# Altium footprint library ADE_PcbLib.PcbLib: 11 footprints
Each footprint in its own frame and in the unit in brackets; x right, y up, seen from the top. Pads: shape width x height; smd on the part's side, far side on the other; paste and mask are expansions set on the pad; w line width, h text height; cw(c..) or ccw(c..) is an arc to the next point about the centre after c.
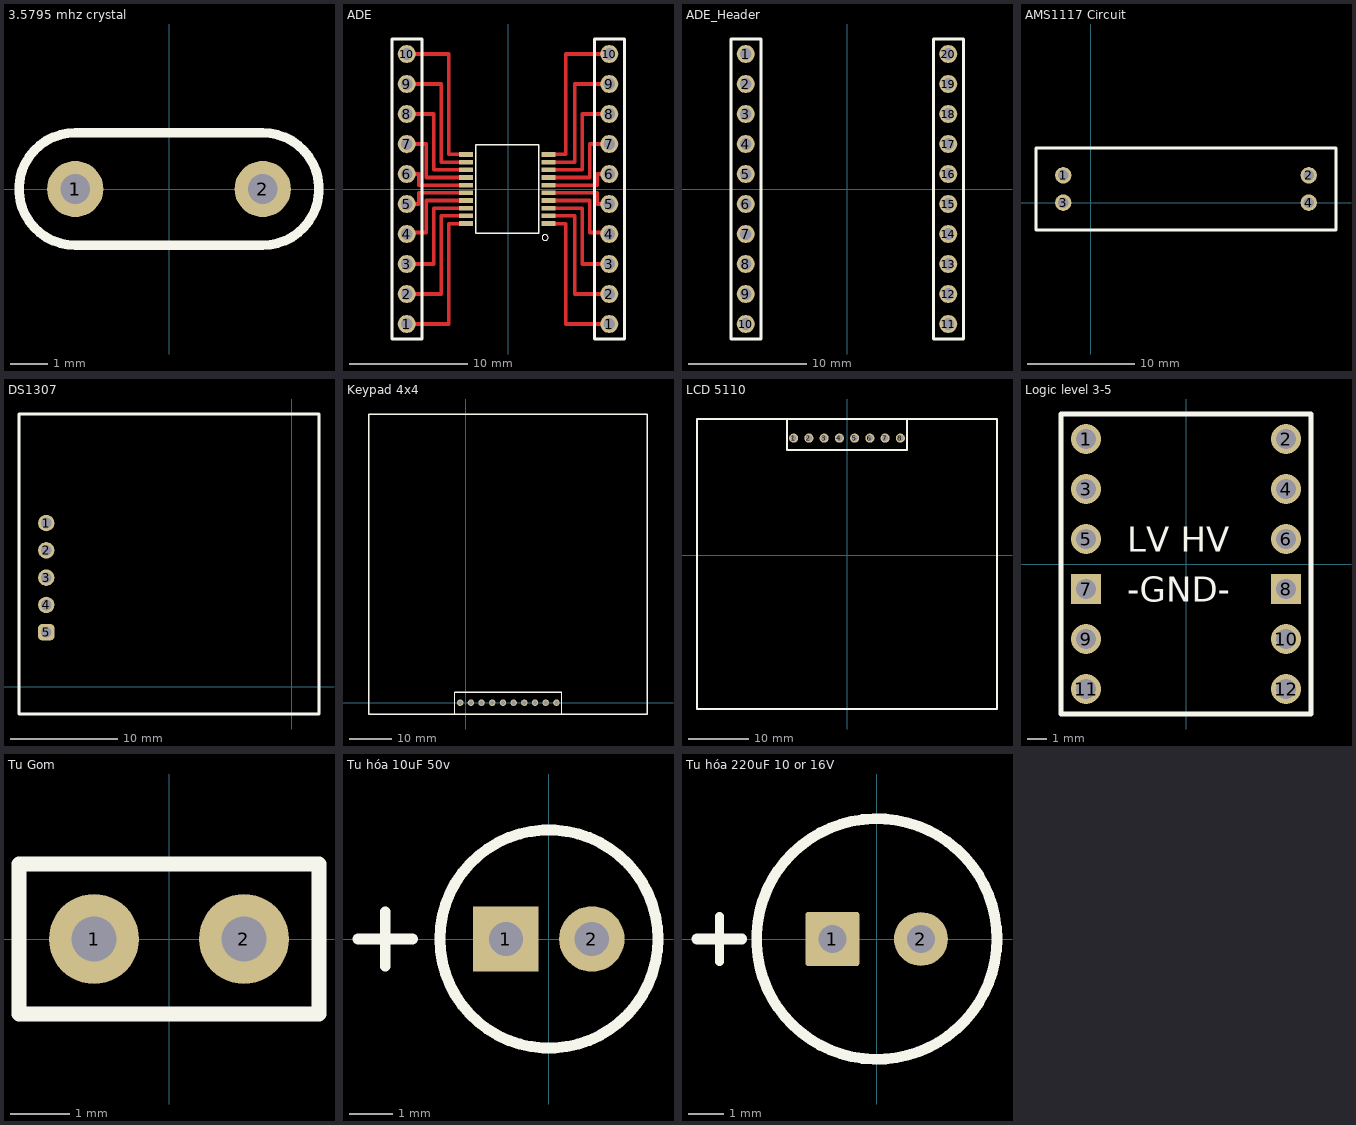
[diagram p0: the footprints below, top view; thin cyan lines are the x and y axes]

## 3.5795 mhz crystal [mil]
pads (3):
  round 60 hole 31.5: 1(-100,0) 1(-100,0) 2(100,0)
Top Overlay:
  lines w10: -100,-60 cw(c-100,0) -100,60 100,60 cw(c100,0) 100,-60 -100,-60

## ADE [mm]
height 2
pads (40):
  round 1.524 hole 1 mask+0.1: 1(-8.572,-11.43) 1(8.572,-11.43) 2(-8.572,-8.89) 2(8.572,-8.89) 3(-8.572,-6.35) 3(8.572,-6.35) 4(-8.572,-3.81) 4(8.572,-3.81) 5(-8.572,-1.27) 5(8.572,-1.27) 6(-8.572,1.27) 6(8.572,1.27) 7(-8.572,3.81) 7(8.572,3.81) 8(-8.572,6.35) 8(8.572,6.35) 9(-8.572,8.89) 9(8.572,8.89) 10(-8.572,11.43) 10(8.572,11.43)
  rect 1.2x0.4 smd: 1(3.437,-2.925) 2(3.437,-2.275) 3(3.437,-1.625) 4(3.437,-0.975) 5(3.437,-0.325) 6(3.437,0.325) 7(3.437,0.975) 8(3.437,1.625) 9(3.437,2.275) 10(3.437,2.925) 11(-3.564,2.925) 12(-3.564,2.275) 13(-3.564,1.625) 14(-3.564,0.975) 15(-3.564,0.325) 16(-3.564,-0.325) 17(-3.564,-0.975) 18(-3.564,-1.625) 19(-3.564,-2.275) 20(-3.564,-2.925)
Top Layer:
  lines w0.3: -8.572,-11.43 -5.016,-11.43 -5.016,-2.925 -3.564,-2.925 ; -8.572,-8.89 -5.651,-8.89 -5.651,-2.275 -3.564,-2.275 ; -8.572,-6.35 -6.286,-6.35 -6.286,-1.625 -3.564,-1.625 ; -8.572,-3.81 -8.572,-3.683 -6.923,-3.683 -6.923,-0.975 -3.564,-0.975 ; -8.572,-1.27 -7.561,-1.27 -7.561,-0.325 -3.564,-0.325 ; -8.572,1.27 -7.561,1.27 -7.561,0.325 -3.564,0.325 ; -8.572,3.81 -8.572,3.175 -7.938,3.81 -6.923,3.81 -6.923,0.975 -3.564,0.975 ; -8.572,6.35 -6.286,6.35 -6.286,1.625 -3.564,1.625 ; -8.572,8.89 -5.651,8.89 -5.651,2.275 -3.564,2.275 ; -8.572,11.43 -5.016,11.43 -5.016,2.925 -3.564,2.925 ; 3.437,-2.925 4.889,-2.925 4.889,-11.43 8.572,-11.43 ; 3.437,-2.275 5.651,-2.275 5.651,-8.89 8.572,-8.89 ; 3.437,-1.625 6.286,-1.625 6.286,-6.35 8.572,-6.35 ; 3.437,-0.975 6.921,-0.975 6.921,-3.683 8.191,-3.683 8.572,-3.302 8.572,-3.81 ; 3.437,-0.325 7.556,-0.325 7.556,-1.27 8.572,-1.27 ; 3.437,0.325 7.556,0.325 7.556,1.27 8.572,1.27 ; 3.437,0.975 6.921,0.975 6.921,3.81 8.572,3.81 ; 3.437,1.625 6.286,1.625 6.286,6.35 8.572,6.35 ; 3.437,2.275 5.651,2.275 5.651,8.89 8.572,8.89 ; 3.437,2.925 4.889,2.925 4.889,11.43 8.572,11.43
Top Overlay:
  circle w0: c3.147,-4.11 r0.25
  lines w0.127: -2.713,-3.75 -2.713,3.75 2.586,3.75 2.586,-3.75 -2.713,-3.75
  lines w0.254: -9.842,-12.7 -7.302,-12.7 -7.302,12.7 -9.842,12.7 -9.842,-12.7 ; 7.302,-12.7 9.842,-12.7 9.842,12.7 7.302,12.7 7.302,-12.7

## ADE_Header [mil]
height 78.74
pads (20):
  round 60 hole 39.37 mask+3.94: 1(-337.5,450) 2(-337.5,350) 3(-337.5,250) 4(-337.5,150) 5(-337.5,50) 6(-337.5,-50) 7(-337.5,-150) 8(-337.5,-250) 9(-337.5,-350) 10(-337.5,-450) 11(337.5,-450) 12(337.5,-350) 13(337.5,-250) 14(337.5,-150) 15(337.5,-50) 16(337.5,50) 17(337.5,150) 18(337.5,250) 19(337.5,350) 20(337.5,450)
Top Overlay:
  lines w10: -387.5,-500 -387.5,500 -287.5,500 -287.5,-500 -387.5,-500 ; 287.5,-500 287.5,500 387.5,500 387.5,-500 287.5,-500

## AMS1117 Circuit [mil] "4 pins, 25x11mm"
height 314.96
pads (4):
  round 60 hole 39.37 mask+3.94: 1(-100,100) 2(800,100) 3(-100,0) 4(800,0)
Top Overlay:
  lines w10: -200,-100 -200,200 800,200 900,200 900,-100 -200,-100

## DS1307 [mil] "Tiny RTC DS1307"
height 196.85
pads (5):
  round 60 hole 39.37 mask+3.94: 1(-900,600) 2(-900,500) 3(-900,400) 4(-900,300)
  rrect50% 60x60 hole 39.37 mask+3.94: 5(-900,200)
Top Overlay:
  lines w11.81: -1000,-100 100,-100 100,1000 -1000,1000 -1000,-100

## Keypad 4x4 [mil] "ban phim c?ng 10 pins"
height 314.96
pads (10):
  round 60 hole 39.37 mask+3.94: 1(-50,0) 2(50,0) 3(150,0) 4(250,0) 5(350,0) 6(450,0) 7(550,0) 8(650,0) 9(750,0) 10(850,0)
Top Overlay:
  lines w10: -100,-100 -100,100 ; 900,-100 900,100
  lines w11.81: -100,100 900,100 ; -905.51,-105.51 1700,-105.51 1700,2700 -905.51,2700 -905.51,-105.51

## LCD 5110 [mil] "Break out board, 8 pins"
height 236.22
pads (8):
  round 60 hole 39.37 mask+3.94: 1(-350,767.4) 2(-250,767.4) 3(-150,767.4) 4(-50,767.4) 5(50,767.4) 6(150,767.4) 7(250,767.4) 8(350,767.4)
Top Overlay:
  lines w11.81: -984.25,-1010 -984.25,893 984.25,893 984.25,-1010 -984.25,-1010 ; -393.7,688.98 -393.7,893 393.7,893 393.7,688.98 -393.7,688.98

## Logic level 3-5 [mil] "4 channels , 12 pins"
height 314.96
pads (13):
  round 60 hole 39.37 mask+3.94: 1(-200,250) 1(-200,250) 2(200,250) 3(-200,150) 4(200,150) 5(-200,50) 6(200,50) 9(-200,-150) 10(200,-150) 11(-200,-250) 12(200,-250)
  rect 60x60 hole 39.37 mask+3.94: 7(-200,-50) 8(200,-50)
Top Overlay:
  lines w10: -250,-300 -250,300 250,300 250,-300 -250,-300
  text "-GND-" at -117.5,-75 h50
  text "LV HV" at -117.5,25 h50

## Tu Gom [mil]
pads (2):
  round 60 hole 30: 1(-50,0) 2(50,0)
Top Overlay:
  lines w10: -100,-50 -100,50 100,50 100,-50 -100,-50

## Tu hóa 10uF 50v [mil] "5x11mm, lead space 2mm"
height 472.44
pads (2):
  rect 60x60 hole 31.5: 1(-39.37,0)
  round 60 hole 31.5: 2(39.37,0)
Top Overlay:
  circle w10: c0,0 r100
  lines w10: -175,0 -125,0 ; -150,-25 -150,25

## Tu hóa 220uF 10 or 16V [mil] "6.3x11mm, lead space 2.5mm"
height 472.44
pads (2):
  rrect10% 60x60 hole 31.5: 1(-49.21,0)
  round 60 hole 31.5: 2(49.21,0)
Top Overlay:
  circle w11.81: c0,0 r133.86
  lines w10: -175,-25 -175,25
  lines w11.81: -200,0 -150,0